# Altium footprint library CAP_SMD_ALU.PcbLib: 25 footprints (part 1 of 2)
Each footprint in its own frame and in the unit in brackets; x right, y up, seen from the top. Pads: shape width x height; smd on the part's side, far side on the other; paste and mask are expansions set on the pad; w line width, h text height; cw(c..) or ccw(c..) is an arc to the next point about the centre after c.
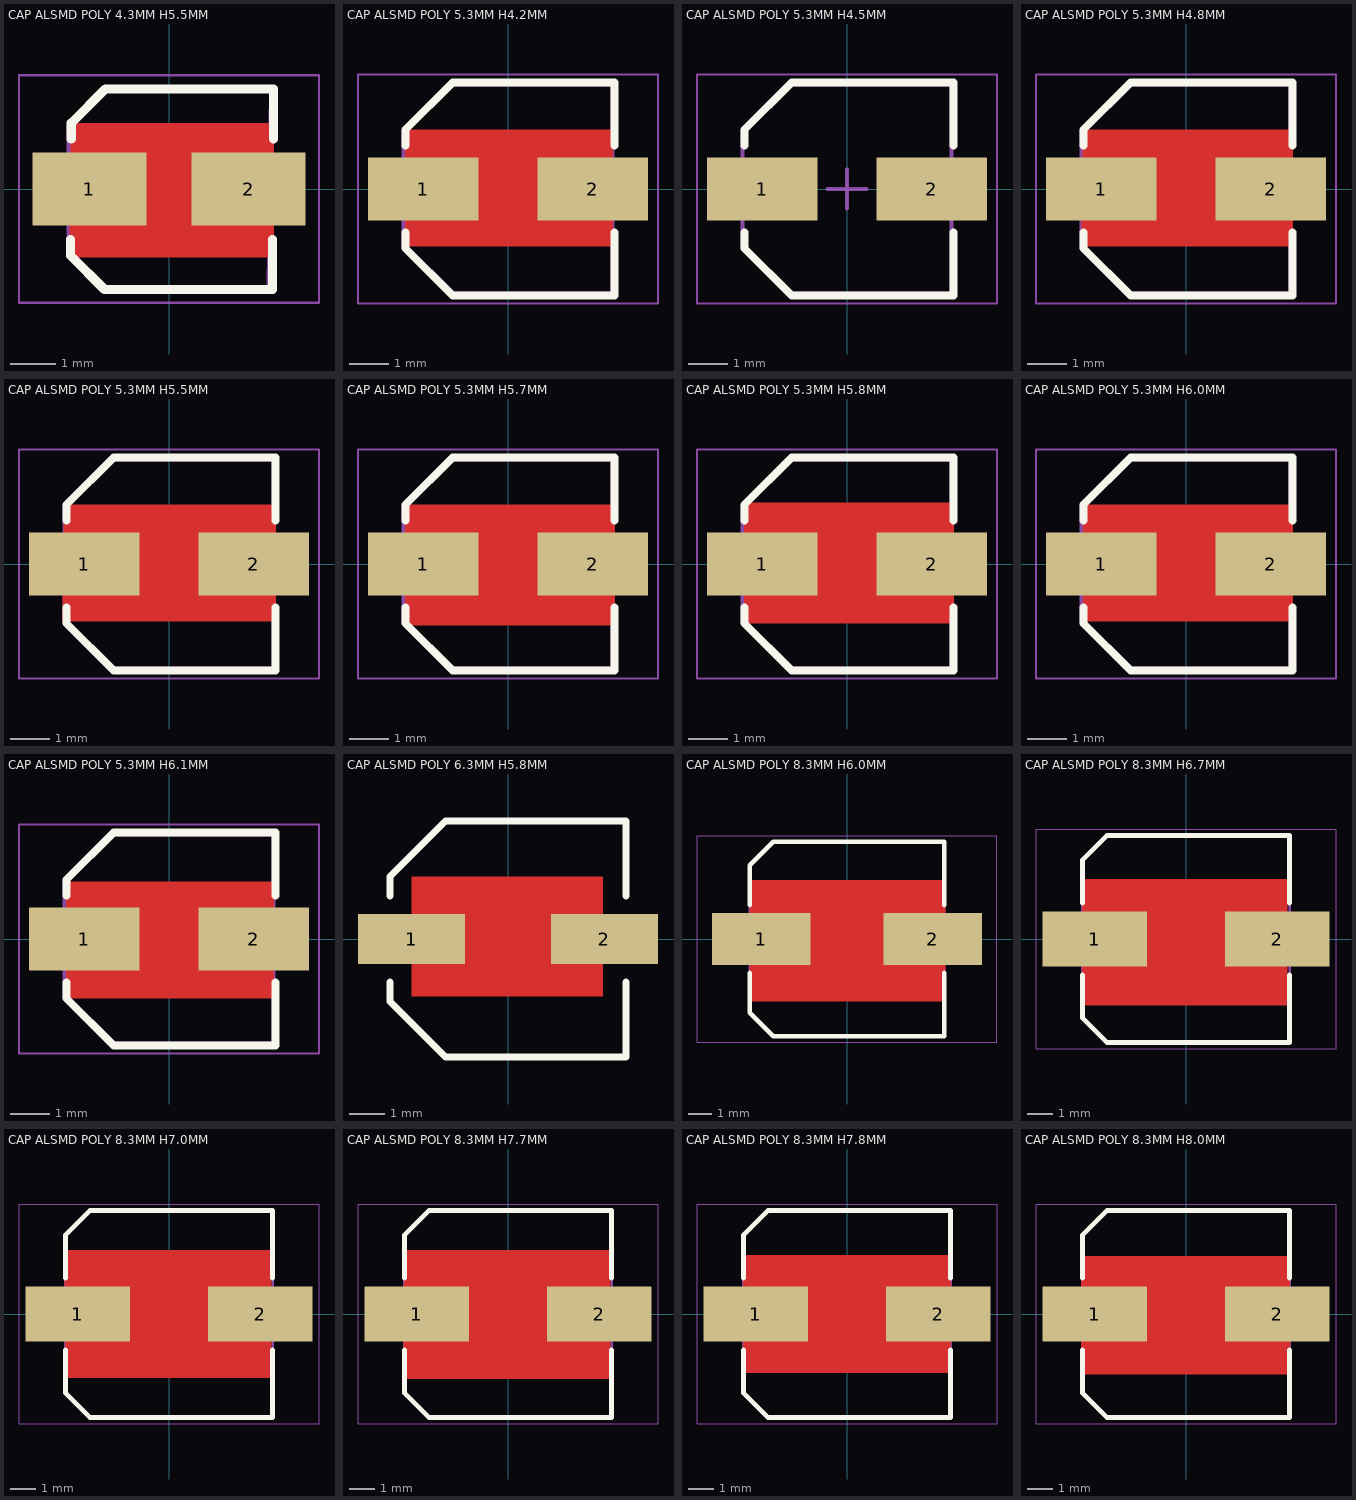
[diagram p0: the footprints below, top view; thin cyan lines are the x and y axes]

## CAP ALSMD POLY 4.3MM H5.5MM [mm] "Aluminum Polymer Capacitor, Body 4.30x4.30x5.50mm, IPC Low Density"
height 5.5
pads (2):
  rect 2.5x1.6 smd: 1(-1.75,0) 2(1.75,0)
Top Layer:
  pour cut-out: -2.15,1.45 2.3,1.45 2.3,-1.5 -2.2,-1.5 -2.2,-1.45
Top Overlay:
  lines w0.2: -2.17,-1.112 -2.17,-1.462 -1.42,-2.212 2.28,-2.212 2.28,-1.112 ; -2.15,1.1 -2.15,1.45 -1.4,2.2 2.3,2.2 2.3,1.1
Mechanical 13:
  lines w0.1: -2.2,-1.4 -1.4,-2.2 2.2,-2.2 2.25,2.2 -1.4,2.2 -2.2,1.4 -2.2,-1.4
Mechanical 15:
  lines w0.05: -3.3,-2.5 -3.3,2.5 3.3,2.5 3.3,-2.5 -3.3,-2.5
  lines w0.1: -0.5,0 0.5,0 ; 0,-0.5 0,0.5
3D body "CAP ALSMD - POLY - 4.3 x 4.3 x 5.5.step": height 5.5, standoff 0, extent -2.3,-2.2 2.3,2.2

## CAP ALSMD POLY 5.3MM H4.2MM [mm] "Aluminum Polymer Capacitor, Body 5.30x5.30x4.20mm, IPC Medium Density"
height 4.2
pads (2):
  rect 2.8x1.6 smd: 1(-2.15,0) 2(2.15,0)
Top Layer:
  pour cut-out: -2.6,1.5 -2.6,-1.45 2.65,-1.45 2.65,1.5
Top Overlay:
  lines w0.2: -2.6,-1.1 -2.6,-1.5 -1.4,-2.7 2.7,-2.7 2.7,-1.1 ; -2.6,1.1 -2.6,1.5 -1.4,2.7 2.7,2.7 2.7,1.1
Mechanical 13:
  lines w0.1: -2.65,-1.5 -1.5,-2.65 2.65,-2.65 2.65,2.65 -1.475,2.65 -2.65,1.475 -2.65,-1.5
Mechanical 15:
  lines w0.05: -3.8,-2.9 3.8,-2.9 3.8,2.9 -3.8,2.9 -3.8,-2.9
  lines w0.1: -0.5,0 0.5,0 ; 0,-0.5 0,0.5
3D body "CAP ALSMD - POLY - 5.3 x 5.3 x 4.2.step": height 4.2, standoff 0, extent -2.95,-2.7 2.95,2.7

## CAP ALSMD POLY 5.3MM H4.5MM [mm] "Aluminum Polymer Capacitor, Body 5.30x5.30x4.50mm, IPC Medium Density"
height 4.5
pads (2):
  rect 2.8x1.6 smd: 1(-2.15,0) 2(2.15,0)
Top Overlay:
  lines w0.2: -2.6,-1.1 -2.6,-1.5 -1.4,-2.7 2.7,-2.7 2.7,-1.1 ; -2.6,1.1 -2.6,1.5 -1.4,2.7 2.7,2.7 2.7,1.1
Mechanical 13:
  lines w0.1: -2.65,-1.5 -1.5,-2.65 2.65,-2.65 2.65,2.65 -1.475,2.65 -2.65,1.475 -2.65,-1.5
Mechanical 15:
  lines w0.05: -3.8,-2.9 3.8,-2.9 3.8,2.9 -3.8,2.9 -3.8,-2.9
  lines w0.1: -0.5,0 0.5,0 ; 0,-0.5 0,0.5
3D body "CAP ALSMD - POLY - 5.3 x 5.3 x 4.5.step": height 4.5, standoff 0, extent -2.95,-2.7 2.95,2.7

## CAP ALSMD POLY 5.3MM H4.8MM [mm] "Aluminum Polymer Capacitor, Body 5.30x5.30x4.80mm, IPC Medium Density"
height 4.8
pads (2):
  rect 2.8x1.6 smd: 1(-2.15,0) 2(2.15,0)
Top Layer:
  pour cut-out: -2.6,1.5 2.7,1.5 2.7,-1.45 -2.65,-1.45 -2.65,-1.5
Top Overlay:
  lines w0.2: -2.6,-1.1 -2.6,-1.5 -1.4,-2.7 2.7,-2.7 2.7,-1.1 ; -2.6,1.1 -2.6,1.5 -1.4,2.7 2.7,2.7 2.7,1.1
Mechanical 13:
  lines w0.1: -2.65,-1.5 -2.65,1.475 -1.475,2.65 2.65,2.65 2.65,-2.65 -1.5,-2.65 -2.65,-1.5
Mechanical 15:
  lines w0.05: -3.8,-2.9 -3.8,2.9 3.8,2.9 3.8,-2.9 -3.8,-2.9
  lines w0.1: -0.5,0 0.5,0 ; 0,-0.5 0,0.5
3D body "CAP ALSMD - POLY - 5.3 x 5.3 x 4.8.step": height 4.8, standoff 0, extent -2.95,-2.7 2.95,2.7

## CAP ALSMD POLY 5.3MM H5.5MM [mm] "Aluminum Polymer Capacitor, Body 5.30x5.30x5.50mm, IPC Medium Density"
height 5.5
pads (2):
  rect 2.8x1.6 smd: 1(-2.15,0) 2(2.15,0)
Top Layer:
  pour cut-out: -2.65,1.5 2.7,1.5 2.7,-1.45 -2.7,-1.45
Top Overlay:
  lines w0.2: -2.6,-1.1 -2.6,-1.5 -1.4,-2.7 2.7,-2.7 2.7,-1.1 ; -2.6,1.1 -2.6,1.5 -1.4,2.7 2.7,2.7 2.7,1.1
Mechanical 13:
  lines w0.1: -2.65,-1.5 -2.65,1.475 -1.475,2.65 2.65,2.65 2.65,-2.65 -1.5,-2.65 -2.65,-1.5
Mechanical 15:
  lines w0.05: -3.8,-2.9 -3.8,2.9 3.8,2.9 3.8,-2.9 -3.8,-2.9
  lines w0.1: -0.5,0 0.5,0 ; 0,-0.5 0,0.5
3D body "CAP ALSMD - POLY - 5.3 x 5.3 x 5.5.step": height 5.5, standoff 0, extent -2.95,-2.7 2.95,2.7

## CAP ALSMD POLY 5.3MM H5.7MM [mm] "Aluminum Polymer Capacitor, Body 5.30x5.30x5.70mm, IPC Medium Density"
height 5.7
pads (2):
  rect 2.8x1.6 smd: 1(-2.15,0) 2(2.15,0)
Top Layer:
  pour cut-out: -2.6,1.5 2.7,1.5 2.7,-1.55 -2.6,-1.55
Top Overlay:
  lines w0.2: -2.6,-1.1 -2.6,-1.5 -1.4,-2.7 2.7,-2.7 2.7,-1.1 ; -2.6,1.1 -2.6,1.5 -1.4,2.7 2.7,2.7 2.7,1.1
Mechanical 13:
  lines w0.1: -2.65,-1.5 -1.5,-2.65 2.65,-2.65 2.65,2.65 -1.475,2.65 -2.65,1.475 -2.65,-1.5
Mechanical 15:
  lines w0.05: -3.8,-2.9 3.8,-2.9 3.8,2.9 -3.8,2.9 -3.8,-2.9
  lines w0.1: -0.5,0 0.5,0 ; 0,-0.5 0,0.5
3D body "CAP ALSMD - POLY - 5.3 x 5.3 x 5.7.step": height 5.7, standoff 0, extent -2.95,-2.7 2.95,2.7

## CAP ALSMD POLY 5.3MM H5.8MM [mm] "Aluminum Polymer Capacitor, Body 5.30x5.30x5.80mm, IPC Medium Density"
height 5.8
pads (2):
  rect 2.8x1.6 smd: 1(-2.15,0) 2(2.15,0)
Top Layer:
  pour cut-out: -2.6,1.55 2.7,1.55 2.7,-1.5 -2.6,-1.5
Top Overlay:
  lines w0.2: -2.6,-1.1 -2.6,-1.5 -1.4,-2.7 2.7,-2.7 2.7,-1.1 ; -2.6,1.1 -2.6,1.5 -1.4,2.7 2.7,2.7 2.7,1.1
Mechanical 13:
  lines w0.1: -2.65,-1.5 -1.5,-2.65 2.65,-2.65 2.65,2.65 -1.475,2.65 -2.65,1.475 -2.65,-1.5
Mechanical 15:
  lines w0.05: -3.8,-2.9 3.8,-2.9 3.8,2.9 -3.8,2.9 -3.8,-2.9
  lines w0.1: -0.5,0 0.5,0 ; 0,-0.5 0,0.5
3D body "CAP ALSMD - POLY - 5.3 x 5.3 x 5.8.step": height 5.8, standoff 0, extent -2.95,-2.7 2.95,2.7

## CAP ALSMD POLY 5.3MM H6.0MM [mm] "Aluminum Polymer Capacitor, Body 5.30x5.30x6.0mm, IPC Medium Density"
height 6
pads (2):
  rect 2.8x1.6 smd: 1(-2.15,0) 2(2.15,0)
Top Layer:
  pour cut-out: -2.6,1.5 -2.6,-1.45 2.7,-1.45 2.7,1.5
Top Overlay:
  lines w0.2: -2.6,-1.1 -2.6,-1.5 -1.4,-2.7 2.7,-2.7 2.7,-1.1 ; -2.6,1.1 -2.6,1.5 -1.4,2.7 2.7,2.7 2.7,1.1
Mechanical 13:
  lines w0.1: -2.65,-1.5 -2.65,1.475 -1.475,2.65 2.65,2.65 2.65,-2.65 -1.5,-2.65 -2.65,-1.5
Mechanical 15:
  lines w0.05: -3.8,-2.9 -3.8,2.9 3.8,2.9 3.8,-2.9 -3.8,-2.9
  lines w0.1: -0.5,0 0.5,0 ; 0,-0.5 0,0.5
3D body "CAP ALSMD - POLY - 5.3 x 5.3 x 6.0.step": height 6, standoff 0, extent -2.95,-2.7 2.95,2.7

## CAP ALSMD POLY 5.3MM H6.1MM [mm] "Aluminum Polymer Capacitor, Body 5.30x5.30x6.1mm, IPC Medium Density"
height 6.1
pads (2):
  rect 2.8x1.6 smd: 1(-2.15,0) 2(2.15,0)
Top Layer:
  pour cut-out: -2.6,1.45 -2.6,-1.5 2.65,-1.5 2.65,1.45
Top Overlay:
  lines w0.2: -2.6,-1.1 -2.6,-1.5 -1.4,-2.7 2.7,-2.7 2.7,-1.1 ; -2.6,1.1 -2.6,1.5 -1.4,2.7 2.7,2.7 2.7,1.1
Mechanical 13:
  lines w0.1: -2.65,-1.5 -1.5,-2.65 2.65,-2.65 2.65,2.65 -1.475,2.65 -2.65,1.475 -2.65,-1.5
Mechanical 15:
  lines w0.05: -3.8,-2.9 3.8,-2.9 3.8,2.9 -3.8,2.9 -3.8,-2.9
  lines w0.1: -0.5,0 0.5,0 ; 0,-0.5 0,0.5
3D body "CAP ALSMD - POLY - 5.3 x 5.3 x 6.1.step": height 6.1, standoff 0, extent -2.95,-2.7 2.95,2.7

## CAP ALSMD POLY 6.3MM H5.8MM [mm] "Electrolytic Cap, D: 6.3mm L: 5.8mm, Size D"
height 5.8
pads (2):
  rect 3x1.4 smd: 1(-2.7,0) 2(2.7,0)
Top Layer:
  pour cut-out: 2.65,1.75 2.65,-1.6 -2.7,-1.6 -2.7,1.75
Top Overlay:
  lines w0.2: -3.3,-1.2 -3.3,-1.75 -1.75,-3.3 3.3,-3.3 3.3,-1.2 ; -3.3,1.2 -3.3,1.75 -1.75,3.3 3.3,3.3 3.3,1.2
3D body "6.3x5.8x2.2.stp": height 5.8, standoff 0, extent -3.65,-3.3 3.65,3.3

## CAP ALSMD POLY 8.3MM H6.0MM [mm] "Aluminum Electrolytic Capacitor, Body 8.30x8.30x6.0mm"
height 6
pads (2):
  rect 4.2x2.2 smd: 1(-3.65,0) 2(3.65,0)
Top Layer:
  pour cut-out: -4.15,2.5 -4.15,-2.65 4.2,-2.65 4.2,2.5
Top Overlay:
  lines w0.2: -4.15,-1.45 -4.15,-3.151 -3.151,-4.15 4.15,-4.15 4.15,-1.45 ; -4.15,1.45 -4.15,3.151 -3.151,4.15 4.15,4.15 4.15,1.45
Mechanical 13:
  lines w0.1: -4.15,-3.15 -3.15,-4.15 4.15,-4.15 4.15,4.15 -3.15,4.15 -4.15,3.15 -4.15,-3.15
Mechanical 15:
  lines w0.05: -6.4,-4.4 -6.4,4.4 6.4,4.4 6.4,-4.4 -6.4,-4.4
  lines w0.1: -0.5,0 0.5,0 ; 0,-0.5 0,0.5
3D body "CAP ALSMD - POLY - 8.3 x 8.3 x 6.0.step": height 6, standoff 0, extent -4.5,-4.15 4.5,4.15

## CAP ALSMD POLY 8.3MM H6.7MM [mm] "Aluminum Electrolytic Capacitor, Body 8.30x8.30x6.7mm"
height 6.7
pads (2):
  rect 4.2x2.2 smd: 1(-3.65,0) 2(3.65,0)
Top Layer:
  pour cut-out: -4.15,2.4 -4.15,-2.65 4.05,-2.65 4.05,2.4
Top Overlay:
  lines w0.2: -4.15,-1.45 -4.15,-3.151 -3.151,-4.15 4.15,-4.15 4.15,-1.45 ; -4.15,1.45 -4.15,3.151 -3.151,4.15 4.15,4.15 4.15,1.45
Mechanical 13:
  lines w0.1: -4.15,-3.15 -4.15,3.15 -3.15,4.15 4.15,4.15 4.15,-4.15 -3.15,-4.15 -4.15,-3.15
Mechanical 15:
  lines w0.05: -6,-4.4 6,-4.4 6,4.4 -6,4.4 -6,-4.4
  lines w0.1: -0.5,0 0.5,0 ; 0,-0.5 0,0.5
3D body "CAP ALSMD - POLY - 8.3 x 8.3 x 6.7.step": height 6.7, standoff 0, extent -4.5,-4.15 4.5,4.15

## CAP ALSMD POLY 8.3MM H7.0MM [mm] "Aluminum Electrolytic Capacitor, Body 8.30x8.30x7mm"
height 7
pads (2):
  rect 4.2x2.2 smd: 1(-3.65,0) 2(3.65,0)
Top Layer:
  pour cut-out: -4.2,2.55 4.1,2.55 4.1,-2.55 -4.15,-2.55 -4.15,-2.3
Top Overlay:
  lines w0.2: -4.15,-1.45 -4.15,-3.151 -3.151,-4.15 4.15,-4.15 4.15,-1.45 ; -4.15,1.45 -4.15,3.151 -3.151,4.15 4.15,4.15 4.15,1.45
Mechanical 13:
  lines w0.1: -4.15,-3.15 -3.15,-4.15 4.15,-4.15 4.15,4.15 -3.15,4.15 -4.15,3.15 -4.15,-3.15
Mechanical 15:
  lines w0.05: -6,-4.4 -6,4.4 6,4.4 6,-4.4 -6,-4.4
  lines w0.1: -0.5,0 0.5,0 ; 0,-0.5 0,0.5
3D body "CAP ALSMD - POLY - 8.3 x 8.3 x 7.0.step": height 7, standoff 0, extent -4.5,-4.15 4.5,4.15

## CAP ALSMD POLY 8.3MM H7.7MM [mm] "Aluminum Electrolytic Capacitor, Body 8.30x8.30x7.7mm"
height 7.7
pads (2):
  rect 4.2x2.2 smd: 1(-3.65,0) 2(3.65,0)
Top Layer:
  pour cut-out: -4.15,2.5 -4.15,2.55 4.1,2.55 4.1,-2.6 -4.2,-2.6
Top Overlay:
  lines w0.2: -4.15,-1.45 -4.15,-3.151 -3.151,-4.15 4.15,-4.15 4.15,-1.45 ; -4.15,1.45 -4.15,3.151 -3.151,4.15 4.15,4.15 4.15,1.45
Mechanical 13:
  lines w0.1: -4.15,-3.15 -4.15,3.15 -3.15,4.15 4.15,4.15 4.15,-4.15 -3.15,-4.15 -4.15,-3.15
Mechanical 15:
  lines w0.05: -6,-4.4 6,-4.4 6,4.4 -6,4.4 -6,-4.4
  lines w0.1: -0.5,0 0.5,0 ; 0,-0.5 0,0.5
3D body "CAP ALSMD - POLY - 8.3 x 8.3 x 7.7.step": height 7.7, standoff 0, extent -4.5,-4.15 4.5,4.15

## CAP ALSMD POLY 8.3MM H7.8MM [mm] "Aluminum Electrolytic Capacitor, Body 8.30x8.30x7.8mm"
height 7.8
pads (2):
  rect 4.2x2.2 smd: 1(-3.65,0) 2(3.65,0)
Top Layer:
  pour cut-out: -4.15,2.35 4.15,2.35 4.15,-2.35 -4.15,-2.35
Top Overlay:
  lines w0.2: -4.15,-1.45 -4.15,-3.151 -3.151,-4.15 4.15,-4.15 4.15,-1.45 ; -4.15,1.45 -4.15,3.151 -3.151,4.15 4.15,4.15 4.15,1.45
Mechanical 13:
  lines w0.1: -4.15,-3.15 -3.15,-4.15 4.15,-4.15 4.15,4.15 -3.15,4.15 -4.15,3.15 -4.15,-3.15
Mechanical 15:
  lines w0.05: -6,-4.4 -6,4.4 6,4.4 6,-4.4 -6,-4.4
  lines w0.1: -0.5,0 0.5,0 ; 0,-0.5 0,0.5
3D body "CAP ALSMD - POLY - 8.3 x 8.3 x 7.8.step": height 7.8, standoff 0, extent -4.5,-4.15 4.5,4.15

## CAP ALSMD POLY 8.3MM H8.0MM [mm] "Aluminum Electrolytic Capacitor, Body 8.30x8.30x8.0mm"
height 8
pads (2):
  rect 4.2x2.2 smd: 1(-3.65,0) 2(3.65,0)
Top Layer:
  pour cut-out: -4.2,2.3 4.15,2.3 4.15,-2.4 -4.2,-2.4
Top Overlay:
  lines w0.2: -4.15,-1.45 -4.15,-3.151 -3.151,-4.15 4.15,-4.15 4.15,-1.45 ; -4.15,1.45 -4.15,3.151 -3.151,4.15 4.15,4.15 4.15,1.45
Mechanical 13:
  lines w0.1: -4.15,-3.15 -3.15,-4.15 4.15,-4.15 4.15,4.15 -3.15,4.15 -4.15,3.15 -4.15,-3.15
Mechanical 15:
  lines w0.05: -6,-4.4 -6,4.4 6,4.4 6,-4.4 -6,-4.4
  lines w0.1: -0.5,0 0.5,0 ; 0,-0.5 0,0.5
3D body "CAP ALSMD - POLY - 8.3 x 8.3 x 8.0.step": height 8, standoff 0, extent -4.5,-4.15 4.5,4.15